# EAGLE library part LM3881 (library texas-instruments)
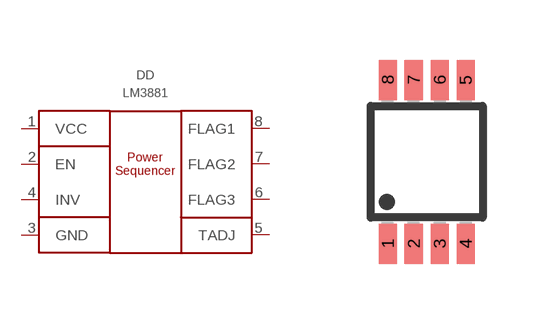
[diagram p21: symbol with the pads of MSOP8; footprint MSOP8]

Designator prefix DD

## LM3881MM/NOPB  [MSOP8]
1  VCC  pwr
2  EN  in
3  GND  pwr
4  INV  in
5  TADJ  pas
6  FLAG3  out
7  FLAG2  out
8  FLAG1  out

## LM3881MME/NOPB  [MSOP8]
Pads as for MSOP8

## LM3881MMX/NOPB  [MSOP8]
Pads as for MSOP8

## Footprint MSOP8 (pad centres in mm)
Micro Small Outline Package Grid .65mm
smd 0.45 x 1: 1 -0.975,-2.05; 2 -0.325,-2.05; 3 0.325,-2.05; 4 0.975,-2.05; 5 0.975,2.05; 6 0.325,2.05; 7 -0.325,2.05; 8 -0.975,2.05